# Altium schematic symbol library PASSIVES.SchLib: 4 symbols
Pins are listed as number, name and electrical type; pins without a type are passive.

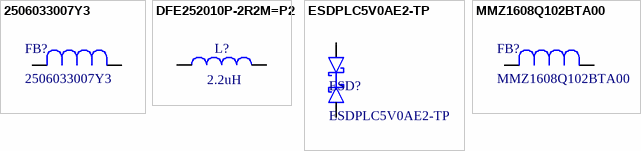
[diagram p0: symbols 2506033007Y3 to MMZ1608Q102BTA00]

## 2506033007Y3
designator FB?
FERRITE BEAD 30 OHM 0603 1LN; Mfr_Name: Fair-Rite; Type: DEV; Copyright: Copyright (C) 2023 Ultra Librarian. All rights reserved.; Manufacturer_Part_Number: 2506033007Y3; Digi-Key_Part_Number_1: 1934-1439-1-ND; Digi-Key_Part_Number_2: 1934-1439-2-ND; Digi-Key_Part_Number_3: 1934-1439-6-ND; RefDes: RefDes
footprint IND_25_0603_FRT
pins: 1, 2

## DFE252010P-2R2M=P2
designator L?  value 2.2uH  (hidden comment: *)
Inductor with Inductance: 2.2uH Tol. +/-20%, Package: 1008 (2520); MP: DFE252010P-2R2M=P2; MF: Murata Electronics; Purchase-URL: https://pricing.snapeda.com/search/part/DFE252010P-2R2M=P2/?ref=eda; Check_prices: https://www.snapeda.com/parts/DFE252010P-2R2M=P2/Murata%20Electronics%20North%20America/view-part/1503972/?ref=eda; Package: 2520 Murata; Availability: Warning; Price: None; SnapEDA_Link: https://www.snapeda.com/parts/DFE252010P-2R2M=P2/Murata%20Electronics%20North%20America/view-part/1503972/?ref=snap
footprint INDC2520X100N
pins: 1, 2

## ESDPLC5V0AE2-TP
designator ESD?
TVS DIODE 5.5VWM 15VC 0201-A
footprint ESDPLC5V0AE2
pins: 1 27, 2

## MMZ1608Q102BTA00
designator FB?
FERRITE BEAD 1K OHM 0603 1LN; Mfr_Name: TDK; Type: DEV; Copyright: Copyright (C) 2023 Ultra Librarian. All rights reserved.; Manufacturer_Part_Number: MMZ1608Q102BTA00; Digi-Key_Part_Number_1: 445-8680-1-ND; Digi-Key_Part_Number_2: 445-8680-2-ND; Digi-Key_Part_Number_3: 445-8680-6-ND; RefDes: RefDes
footprint IND_1608_TDK
pins: 1, 2